# Altium schematic symbol library AVR_ISR.SchLib: 1 symbol
Pins are listed as number, name and electrical type; pins without a type are passive.

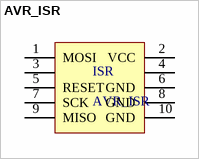
[diagram p0: symbol AVR_ISR]

## AVR_ISR
designator ISR
AVR单片机下载器
footprint AVR_10 (烧录器)
pins: 1 MOSI, 2 VCC, 3, 4, 5 RESET, 6 GND, 7 SCK, 8 GND, 9 MISO, 10 GND